# EAGLE library part ADT6401 (library ADT6401)
Analog Devices ADT6401 Thermostat The ADT6401 is a configurable thermostat. When the ambient temperature falls over or under the defined temperature the alarm pin goes low.
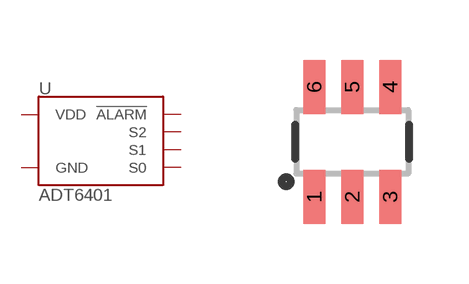
[diagram p0: symbol with the pads of SOT23-6; footprint SOT23-6]

Designator prefix U

## ADT6401 (PROD_ID: IC-15121)  [SOT23-6]
1  S2
2  S1
3  S0  in
4  VDD  pwr
5  GND  pwr
6  !ALARM!

## Footprint SOT23-6 (pad centres in mm)
SOT23 (6 pin) Mechanical Layout Landing Pad: 0.55mm X 1.395mm Landing Pad Pitch: 0.95mm 2.7mm vertical distance between pads
smd 0.55 x 1.35: 1 -0.95,-1.375; 2 0,-1.375; 3 0.95,-1.375; 4 0.95,1.375; 5 0,1.375; 6 -0.95,1.375